# Altium footprint library PCB Pinhead.PcbLib: 149 footprints (part 1 of 10)
Each footprint in its own frame and in the unit in brackets; x right, y up, seen from the top. Pads: shape width x height; smd on the part's side, far side on the other; paste and mask are expansions set on the pad; w line width, h text height; cw(c..) or ccw(c..) is an arc to the next point about the centre after c.
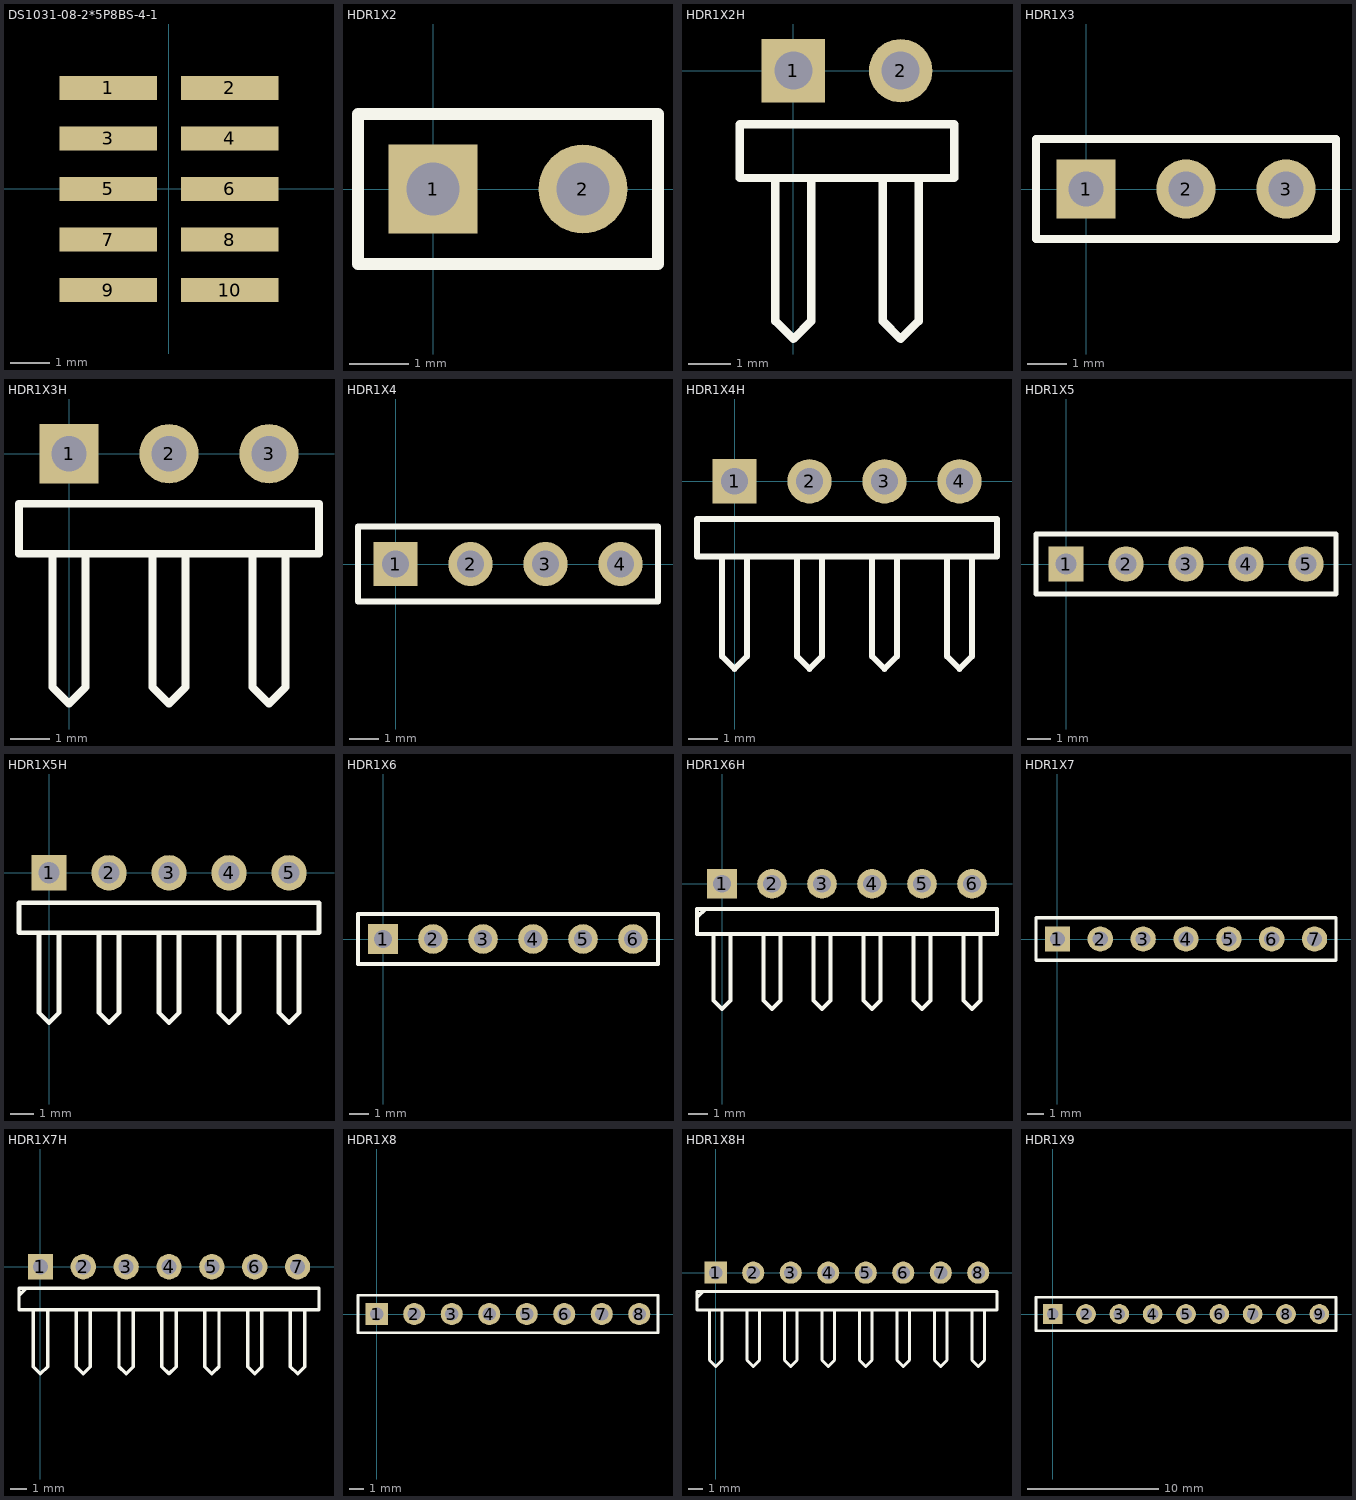
[diagram p0: the footprints below, top view; thin cyan lines are the x and y axes]

## DS1031-08-2*5P8BS-4-1 [mm]
pads (10):
  rect 2.45x0.6 smd: 1(-1.525,2.54) 2(1.525,2.54) 3(-1.525,1.27) 4(1.525,1.27) 5(-1.525,0) 6(1.525,0) 7(-1.525,-1.27) 8(1.525,-1.27) 9(-1.525,-2.54) 10(1.525,-2.54)
3D body: height 7.15, standoff -0.06, extent -3,-3.175 3,3.175

## HDR1X2 [mm]
pads (2):
  rect 1.5x1.5 hole 0.9: 1(0,0)
  round 1.5 hole 0.9: 2(2.54,0)
Top Overlay:
  lines w0.2: -1.27,-1.27 -1.27,1.27 3.81,1.27 3.81,-1.27 -1.27,-1.27

## HDR1X2H [mm]
pads (2):
  rect 1.5x1.5 hole 0.9: 1(0,0)
  round 1.5 hole 0.9: 2(2.54,0)
Top Overlay:
  lines w0.2: -0.423,-2.54 -0.423,-5.927 0,-6.35 0.423,-5.927 0.423,-2.54 ; 2.117,-2.54 2.117,-5.927 2.54,-6.35 2.963,-5.927 2.963,-2.54 ; -1.27,-2.54 -1.27,-1.27 3.81,-1.27 3.81,-2.54 -1.27,-2.54

## HDR1X3 [mm]
pads (3):
  rect 1.5x1.5 hole 0.9: 1(0,0)
  round 1.5 hole 0.9: 2(2.54,0) 3(5.08,0)
Top Overlay:
  lines w0.2: -1.27,-1.27 6.35,-1.27 6.35,1.27 -1.27,1.27 -1.27,-1.27
3D body: height 8.5, standoff -3.2, extent -1.395,-1.25 6.475,1.25

## HDR1X3H [mm]
pads (3):
  rect 1.5x1.5 hole 0.9: 1(0,0)
  round 1.5 hole 0.9: 2(2.54,0) 3(5.08,0)
Top Overlay:
  lines w0.2: -0.423,-2.54 -0.423,-5.927 0,-6.35 0.423,-5.927 0.423,-2.54 ; 2.117,-2.54 2.117,-5.927 2.54,-6.35 2.963,-5.927 2.963,-2.54 ; 4.657,-2.54 4.657,-5.927 5.08,-6.35 5.503,-5.927 5.503,-2.54 ; -1.27,-2.54 6.35,-2.54 6.35,-1.27 -1.27,-1.27 -1.27,-2.54

## HDR1X4 [mm]
pads (4):
  rect 1.5x1.5 hole 0.9: 1(0,0)
  round 1.5 hole 0.9: 2(2.54,0) 3(5.08,0) 4(7.62,0)
Top Overlay:
  lines w0.2: -1.27,-1.27 -1.27,1.27 8.89,1.27 8.89,-1.27 -1.27,-1.27
3D body: height 8.5, standoff -3.2, extent -1.4,-1.25 9.01,1.25

## HDR1X4H [mm]
pads (4):
  rect 1.5x1.5 hole 0.9: 1(0,0)
  round 1.5 hole 0.9: 2(2.54,0) 3(5.08,0) 4(7.62,0)
Top Overlay:
  lines w0.2: -0.423,-2.54 -0.423,-5.927 0,-6.35 0.423,-5.927 0.423,-2.54 ; 2.117,-2.54 2.117,-5.927 2.54,-6.35 2.963,-5.927 2.963,-2.54 ; 4.657,-2.54 4.657,-5.927 5.08,-6.35 5.503,-5.927 5.503,-2.54 ; 7.197,-2.54 7.197,-5.927 7.62,-6.35 8.043,-5.927 8.043,-2.54 ; -1.27,-2.54 -1.27,-1.27 8.89,-1.27 8.89,-2.54 -1.27,-2.54

## HDR1X5 [mm]
pads (5):
  rect 1.5x1.5 hole 0.9: 1(0,0)
  round 1.5 hole 0.9: 2(2.54,0) 3(5.08,0) 4(7.62,0) 5(10.16,0)
Top Overlay:
  lines w0.2: -1.27,-1.27 -1.27,1.27 11.43,1.27 11.43,-1.27 -1.27,-1.27
3D body: height 8.5, standoff -3.2, extent -1.395,-1.25 11.555,1.25

## HDR1X5H [mm]
pads (5):
  rect 1.5x1.5 hole 0.9: 1(0,0)
  round 1.5 hole 0.9: 2(2.54,0) 3(5.08,0) 4(7.62,0) 5(10.16,0)
Top Overlay:
  lines w0.2: -0.423,-2.54 -0.423,-5.927 0,-6.35 0.423,-5.927 0.423,-2.54 ; 2.117,-2.54 2.117,-5.927 2.54,-6.35 2.963,-5.927 2.963,-2.54 ; 4.657,-2.54 4.657,-5.927 5.08,-6.35 5.503,-5.927 5.503,-2.54 ; 7.197,-2.54 7.197,-5.927 7.62,-6.35 8.043,-5.927 8.043,-2.54 ; 9.737,-2.54 9.737,-5.927 10.16,-6.35 10.583,-5.927 10.583,-2.54 ; -1.27,-2.54 11.43,-2.54 11.43,-1.27 -1.27,-1.27 -1.27,-2.54

## HDR1X6 [mm]
pads (6):
  rect 1.5x1.5 hole 0.9: 1(0,0)
  round 1.5 hole 0.9: 2(2.54,0) 3(5.08,0) 4(7.62,0) 5(10.16,0) 6(12.7,0)
Top Overlay:
  lines w0.2: -1.27,-1.27 -1.27,1.27 13.97,1.27 13.97,-1.27 -1.27,-1.27
3D body: height 2.55, standoff -9.05, extent -1.27,-1.27 13.97,1.27

## HDR1X6H [mm]
pads (6):
  rect 1.5x1.5 hole 0.9: 1(0,0)
  round 1.5 hole 0.9: 2(2.54,0) 3(5.08,0) 4(7.62,0) 5(10.16,0) 6(12.7,0)
Top Overlay:
  lines w0.2: -1.27,-1.693 -0.847,-1.27 ; -0.423,-2.54 -0.423,-5.927 0,-6.35 0.423,-5.927 0.423,-2.54 ; 2.117,-2.54 2.117,-5.927 2.54,-6.35 2.963,-5.927 2.963,-2.54 ; 4.657,-2.54 4.657,-5.927 5.08,-6.35 5.503,-5.927 5.503,-2.54 ; 7.197,-2.54 7.197,-5.927 7.62,-6.35 8.043,-5.927 8.043,-2.54 ; 9.737,-2.54 9.737,-5.927 10.16,-6.35 10.583,-5.927 10.583,-2.54 ; 12.277,-2.54 12.277,-5.927 12.7,-6.35 13.123,-5.927 13.123,-2.54 ; -1.27,-2.54 13.97,-2.54 13.97,-1.27 -1.27,-1.27 -1.27,-2.54

## HDR1X7 [mm]
pads (7):
  rect 1.5x1.5 hole 0.9: 1(0,0)
  round 1.5 hole 0.9: 2(2.54,0) 3(5.08,0) 4(7.62,0) 5(10.16,0) 6(12.7,0) 7(15.24,0)
Top Overlay:
  lines w0.2: -1.27,-1.27 -1.27,1.27 16.51,1.27 16.51,-1.27 -1.27,-1.27

## HDR1X7H [mm]
pads (7):
  rect 1.5x1.5 hole 0.9: 1(0,0)
  round 1.5 hole 0.9: 2(2.54,0) 3(5.08,0) 4(7.62,0) 5(10.16,0) 6(12.7,0) 7(15.24,0)
Top Overlay:
  lines w0.2: -1.27,-1.693 -0.847,-1.27 ; -0.423,-2.54 -0.423,-5.927 0,-6.35 0.423,-5.927 0.423,-2.54 ; 2.117,-2.54 2.117,-5.927 2.54,-6.35 2.963,-5.927 2.963,-2.54 ; 4.657,-2.54 4.657,-5.927 5.08,-6.35 5.503,-5.927 5.503,-2.54 ; 7.197,-2.54 7.197,-5.927 7.62,-6.35 8.043,-5.927 8.043,-2.54 ; 9.737,-2.54 9.737,-5.927 10.16,-6.35 10.583,-5.927 10.583,-2.54 ; 12.277,-2.54 12.277,-5.927 12.7,-6.35 13.123,-5.927 13.123,-2.54 ; 14.817,-2.54 14.817,-5.927 15.24,-6.35 15.663,-5.927 15.663,-2.54 ; -1.27,-2.54 16.51,-2.54 16.51,-1.27 -1.27,-1.27 -1.27,-2.54

## HDR1X8 [mm]
pads (8):
  rect 1.5x1.5 hole 0.9: 1(0,0)
  round 1.5 hole 0.9: 2(2.54,0) 3(5.08,0) 4(7.62,0) 5(10.16,0) 6(12.7,0) 7(15.24,0) 8(17.78,0)
Top Overlay:
  lines w0.2: -1.27,-1.27 19.05,-1.27 19.05,1.27 -1.27,1.27 -1.27,-1.27
3D body: height 8.6, standoff -3, extent -1.27,-1.27 19.05,1.27

## HDR1X8H [mm]
pads (8):
  rect 1.5x1.5 hole 0.9: 1(0,0)
  round 1.5 hole 0.9: 2(2.54,0) 3(5.08,0) 4(7.62,0) 5(10.16,0) 6(12.7,0) 7(15.24,0) 8(17.78,0)
Top Overlay:
  lines w0.2: -1.27,-1.693 -0.847,-1.27 ; -0.423,-2.54 -0.423,-5.927 0,-6.35 0.423,-5.927 0.423,-2.54 ; 2.117,-2.54 2.117,-5.927 2.54,-6.35 2.963,-5.927 2.963,-2.54 ; 4.657,-2.54 4.657,-5.927 5.08,-6.35 5.503,-5.927 5.503,-2.54 ; 7.197,-2.54 7.197,-5.927 7.62,-6.35 8.043,-5.927 8.043,-2.54 ; 9.737,-2.54 9.737,-5.927 10.16,-6.35 10.583,-5.927 10.583,-2.54 ; 12.277,-2.54 12.277,-5.927 12.7,-6.35 13.123,-5.927 13.123,-2.54 ; 14.817,-2.54 14.817,-5.927 15.24,-6.35 15.663,-5.927 15.663,-2.54 ; 17.357,-2.54 17.357,-5.927 17.78,-6.35 18.203,-5.927 18.203,-2.54 ; -1.27,-2.54 -1.27,-1.27 19.05,-1.27 19.05,-2.54 -1.27,-2.54

## HDR1X9 [mm]
pads (9):
  rect 1.5x1.5 hole 0.9: 1(0,0)
  round 1.5 hole 0.9: 2(2.54,0) 3(5.08,0) 4(7.62,0) 5(10.16,0) 6(12.7,0) 7(15.24,0) 8(17.78,0) 9(20.32,0)
Top Overlay:
  lines w0.2: -1.27,-1.27 -1.27,1.27 21.59,1.27 21.59,-1.27 -1.27,-1.27